# Altium schematic symbol library orbit_PA.SchLib: 7 symbols
Pins are listed as number, name and electrical type; pins without a type are passive.

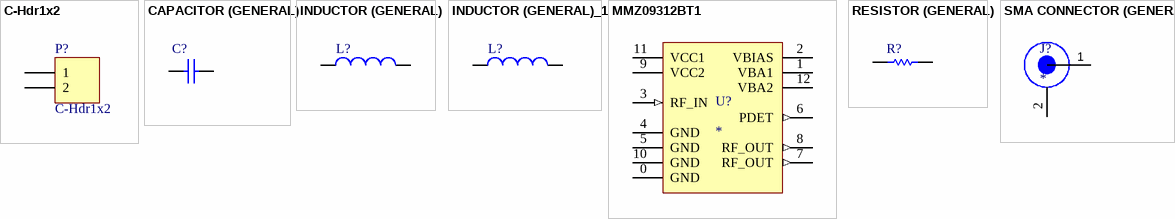
[diagram p0: symbols C-Hdr1x2 to SMA CONNECTOR (GENERAL)]

## C-Hdr1x2
designator P?
Header, 2-Pin; LatestRevisionDate: 17-Jul-2002; LatestRevisionNote: Re-released for DXP Platform.; Publisher: Altium Limited; Supplier 1: Digi-Key; Supplier Part Number 1: 732-5315-ND
signal-integrity model Connector
footprint HDR1X2_LGE1.0 (Connector; Header; 2 Position; 2.54mm (100mil) pitch)
pins: 1, 2

## CAPACITOR (GENERAL)
designator C?
Capacitor; Supplier 1: Digi-Key; Supplier Part Number 1: *; Value: *
footprint C0805 (Chip Capacitor, Body 2.0x1.3mm, IPC High Density)
footprint 1812 (Chip Capacitor, Body 4.5x3.2mm, IPC High Density)
footprint 1825 (Chip Capacitor, Body 4.5x6.4mm, IPC High Density)
footprint C2225 (Chip Capacitor, Body 5.7x6.4mm, IPC High Density)
footprint 2220 (Chip Capacitor, Body 5.7x5.0mm, IPC High Density)
simulation model CAP (Capacitor)
signal-integrity model Cap Pol
pins: 1, 2
1 alternate drawing of the same symbol

## INDUCTOR (GENERAL)
designator L?
Inductor; Supplier 1: Digi-Key; Supplier Part Number 1: *; Value: *
footprint 0402-A (Chip Inductor, Body 1.0x0.5mm, IPC High Density)
footprint INDC1608L (Chip Inductor, Body 1.6x0.8mm, IPC High Density)
footprint 2029 (Chip Inductor, Body 2.0x1.2mm, IPC High Density)
footprint 0603 (Chip Inductor, Body 0.6x0.3mm, IPC High Density)
footprint INDC3216 (Chip Inductor, Body 3.2x1.6mm, IPC High Density)
footprint INDC4532 (Chip Inductor, Body 4.5x3.2mm, IPC High Density)
simulation model INDUCTOR (Inductor)
signal-integrity model Inductor
pins: 1, 2

## INDUCTOR (GENERAL)_1
designator L?
Inductor; Supplier 1: Digi-Key; Supplier Part Number 1: 490-6577-1-ND; Value: *
footprint 0402-A (Chip Inductor, Body 1.0x0.5mm, IPC High Density)
footprint INDC1608L (Chip Inductor, Body 1.6x0.8mm, IPC High Density)
footprint 2029 (Chip Inductor, Body 2.0x1.2mm, IPC High Density)
footprint 0603 (Chip Inductor, Body 0.6x0.3mm, IPC High Density)
footprint INDC3216 (Chip Inductor, Body 3.2x1.6mm, IPC High Density)
footprint INDC4532 (Chip Inductor, Body 4.5x3.2mm, IPC High Density)
simulation model INDUCTOR (Inductor)
signal-integrity model Inductor
pins: 1, 2

## MMZ09312BT1
designator U?
IC RF AMP CDMA 400MHZ-1GHZ 12QFN; Supplier 1: Digi-Key; Supplier Part Number 1: MMZ09312BT1TR-ND
footprint QFN 3x3 (QFN, 12-Leads, Body 3.00x3.00mm, Pitch 0.50mm, Thermal Pad 1.50x1.50mm, IPC Medium Density (MMZ))
pins: 0 GND, 1 VBA1 (power), 2 VBIAS (power), 3 RF_IN (in), 4 GND, 5 GND, 6 PDET (out), 7 RF_OUT (out), 8 RF_OUT (out), 9 VCC2 (power), 10 GND, 11 VCC1 (power), 12 VBA2 (power)

## RESISTOR (GENERAL)
designator R?
Resistor; Supplier 1: Digi-Key; Supplier Part Number 1: TBD; Value: *
pins: 1, 2

## SMA CONNECTOR (GENERAL)
designator J?
Supplier 1: Digi-Key; Supplier Part Number 1: *
pins: 1, 2